# Altium schematic symbol library Omron.SchLib: 1 symbol
Pins are listed as number, name and electrical type; pins without a type are passive.

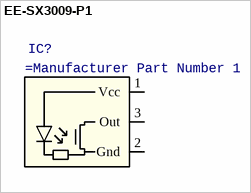
[diagram p0: symbol EE-SX3009-P1]

## EE-SX3009-P1
designator IC?
Photoelectric Sensor
pins: 1 Vcc, 2 Gnd, 3 Out